# EAGLE library part TTP229B (library TTP229B)
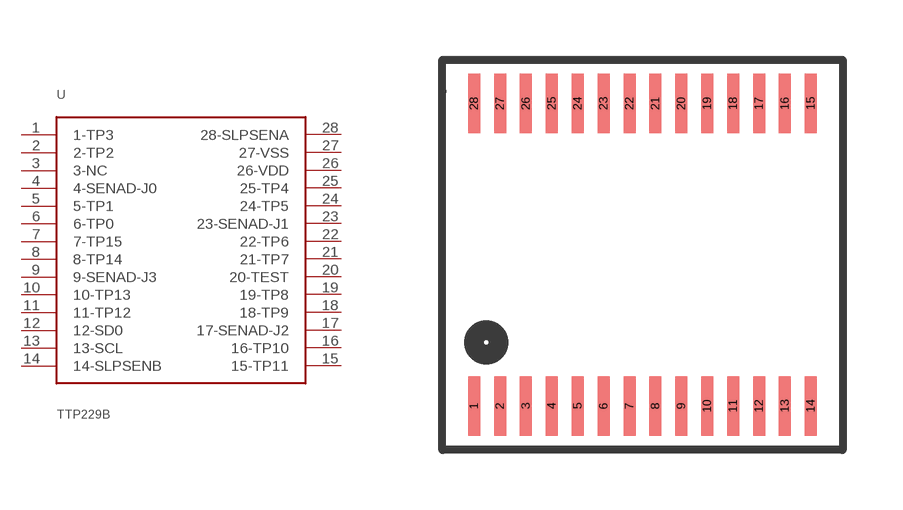
[diagram p0: symbol with the pads of SSOP-28; footprint SSOP-28]

Designator prefix -

## TTP229B  [SSOP-28]
1  1-TP3
2  2-TP2
3  3-NC
4  4-SENAD-J0
5  5-TP1
6  6-TP0
7  7-TP15
8  8-TP14
9  9-SENAD-J3
10  10-TP13
11  11-TP12
12  12-SD0
13  13-SCL
14  14-SLPSENB
15  15-TP11
16  16-TP10
17  17-SENAD-J2
18  18-TP9
19  19-TP8
20  20-TEST
21  21-TP7
22  22-TP6
23  23-SENAD-J1
24  24-TP5
25  25-TP4
26  26-VDD
27  27-VSS
28  28-SLPSENA

## Footprint SSOP-28 (pad centres in mm)
smd 0.3 x 1.5: 1 -3.9,-3.8; 2 -3.25,-3.8; 3 -2.6,-3.8; 4 -1.95,-3.8; 5 -1.3,-3.8; 6 -0.65,-3.8; 7 0,-3.8; 8 0.65,-3.8; 9 1.3,-3.8; 10 1.95,-3.8; 11 2.6,-3.8; 12 3.25,-3.8; 13 3.9,-3.8; 14 4.55,-3.8; 15 4.55,3.8; 16 3.9,3.8; 17 3.25,3.8; 18 2.6,3.8; 19 1.95,3.8; 20 1.3,3.8; 21 0.65,3.8; 22 0,3.8; 23 -0.65,3.8; 24 -1.3,3.8; 25 -1.95,3.8; 26 -2.6,3.8; 27 -3.25,3.8; 28 -3.9,3.8